# EAGLE library part LTC3108 (library PowerProducts)
LT-Spice library generated with : ltspice.ulp from: D:/Program Files (x86)/LTC/LTspiceIV/lib/sym/PowerProducts/LTC3112*.asy at 07.10.2012 17:15:06
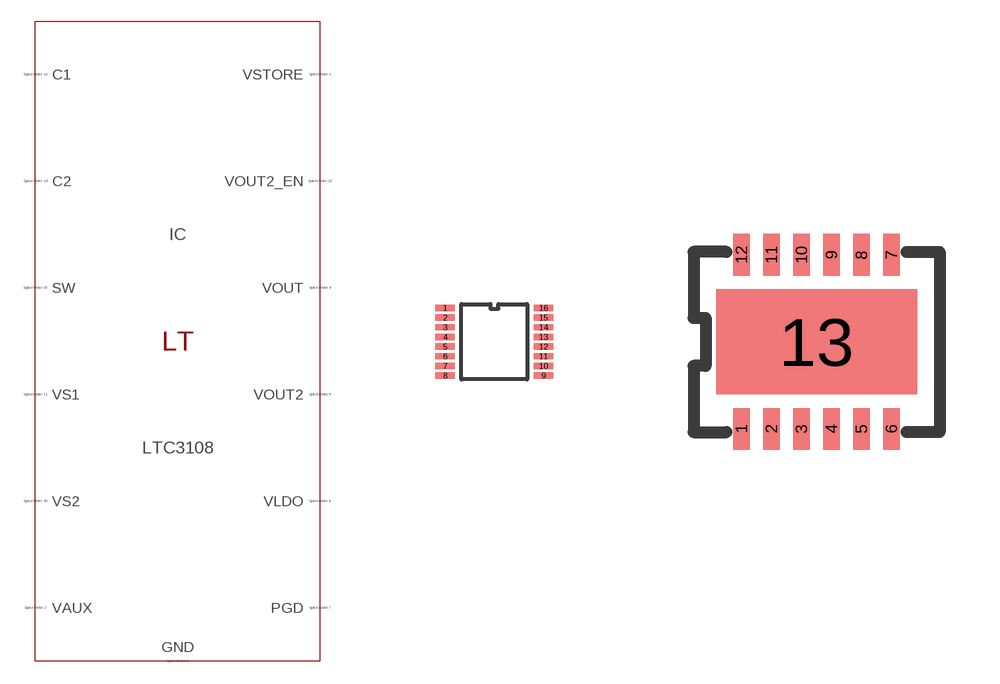
[diagram p119: symbol with the pads of SSOP16(GN); footprints SSOP16(GN), DFN12(DE)]

Designator prefix IC

## LTC3108GN (SPICEMODEL: LTC3108.sub; SPICEPREFIX: X; VALUE2: LTC3108)  [SSOP16(GN)]
1  GND  pas
2  VAUX  pas
3  VSTORE  pas
4  VOUT  pas
5  VOUT2  pas
6  VLDO  pas
7  PGD  pas
8  GND  pas
9  GND  pas
10  VS2  pas
11  VS1  pas
12  VOUT2_EN  pas
13  C1  pas
14  C2  pas
15  SW  pas
16  GND  pas

## LTC3108 (SPICEMODEL: LTC3108.sub; SPICEPREFIX: X; VALUE2: LTC3108)  [DFN12(DE)]
1  VAUX  pas
2  VSTORE  pas
3  VOUT  pas
4  VOUT2  pas
5  VLDO  pas
6  PGD  pas
7  VS2  pas
8  VS1  pas
9  VOUT2_EN  pas
10  C1  pas
11  C2  pas
12  SW  pas
13  GND  pas

## Footprint SSOP16(GN) (pad centres in mm)
Package generated from: SSOP16(GN).asc (!PADS-POWERPCB-V5.0-BASIC! DESIGN DATABASE ASCII FILE 1.0) with :import-pads-powerpcb-v5.ulp Version 1.0.1 at 04.10.2012 14:11:37
smd 0.484 x 0.16: 1 -1.229,0.847; 2 -1.229,0.605; 3 -1.229,0.363; 4 -1.229,0.121; 5 -1.229,-0.121; 6 -1.229,-0.363; 7 -1.229,-0.605; 8 -1.229,-0.847; 9 1.229,-0.847; 10 1.229,-0.605; 11 1.229,-0.363; 12 1.229,-0.121; 13 1.229,0.121; 14 1.229,0.363; 15 1.229,0.605; 16 1.229,0.847

## Footprint DFN12(DE) (pad centres in mm)
Package generated from: DFN12(DE).asc (!PADS-POWERPCB-V5.0-BASIC! DESIGN DATABASE ASCII FILE 1.0) with :import-pads-powerpcb-v5.ulp Version 1.0.1 at 04.10.2012 14:11:16
smd 0.42 x 1.05: 1 -1.875,-2.175; 2 -1.125,-2.175; 3 -0.375,-2.175; 4 0.375,-2.175; 5 1.125,-2.175; 6 1.875,-2.175; 7 1.875,2.175; 8 1.125,2.175; 9 0.375,2.175; 10 -0.375,2.175; 11 -1.125,2.175; 12 -1.875,2.175
smd 5.025 x 2.625: 13 0,0